# Altium schematic symbol library Discret Components.SchLib: 11 symbols
Pins are listed as number, name and electrical type; pins without a type are passive.

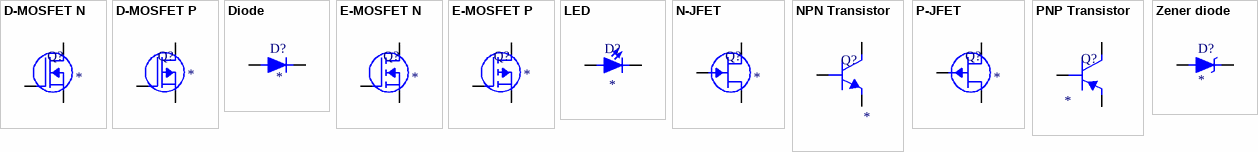
[diagram p0: symbols D-MOSFET N to Zener diode]

## D-MOSFET N
designator Q?
Manufacturer: *; Manufacturer part number: *; Value: *
footprint SOT-23-3 IPC-C
footprint SOT-23-3 IPC-A
footprint SOT-23-3 IPC-B
pins: 1 G, 2 S, 3 D

## D-MOSFET P
designator Q?
Manufacturer: *; Manufacturer part number: *; Value: *
footprint SOT-23-3 IPC-B
footprint SOT-23-3 IPC-C
footprint SOT-23-3 IPC-A
pins: 1 G, 2 S, 3 D

## Diode
designator D?
Manufacturer: *; Manufacturer Part Number: *; Value: *
footprint SOD-323 IPC-B
footprint SOD-323 IPC-C
footprint SOT-23-3 IPC-C
footprint SOT-23-3 IPC-B
footprint SOD-323 IPC-A
footprint SOT-23-3 IPC-A
pins: 1 A, 2 K

## E-MOSFET N
designator Q?
Manufacturer: *; Manufacturer part number: *; Value: *
footprint SOT-23-3 IPC-B
footprint SOT-23-3 IPC-A
footprint SOT-23-3 IPC-C
pins: 1 G, 2 S, 3 D

## E-MOSFET P
designator Q?
Manufacturer: *; Manufacturer part number: *; Value: *
footprint SOT-23-3 IPC-B
footprint SOT-23-3 IPC-A
footprint SOT-23-3 IPC-C
pins: 1 G, 2 S, 3 D

## LED
designator D?
Manufacturer: *; Manufacturer part number: *; Value: *
footprint 0603 IPC-A
footprint 0603 IPC-B
footprint 0603 IPC-C
footprint 0805 IPC-A
footprint 0805 IPC-B
footprint 0805 IPC-C
pins: 1 A, 2 K

## N-JFET
designator Q?
JFET; Manufacturer: *; Manufacturer part number: *; Value: *
footprint SOT-23-3 IPC-B
footprint SOT-23-3 IPC-C
footprint SOT-23-3 IPC-A
pins: 1 G, 2 S, 3 D

## NPN Transistor
designator Q?
Manufacturer: *; Manufacturer Part Number: *; Value: *
footprint SOT-23-3 IPC-A
footprint SOT-23-3 IPC-C
footprint SOT-23-3 IPC-B
pins: 1 B, 2 E, 3 C

## P-JFET
designator Q?
JFET; Manufacturer: *; Manufacturer part number: *; Value: *
footprint SOT-23-3 IPC-C
footprint SOT-23-3 IPC-A
footprint SOT-23-3 IPC-B
pins: 1 G, 2 S, 3 D

## PNP Transistor
designator Q?
Manufacturer: *; Manufactuer part number: *; Value: *
footprint SOT-23-3 IPC-A
footprint SOT-23-3 IPC-C
footprint SOT-23-3 IPC-B
pins: 1 B, 2 E, 3 C

## Zener diode
designator D?
Manufacturer: *; Manufacturer part number: *; Value: *
footprint SOD-323 IPC-A
footprint SOD-323 IPC-B
footprint SOD-323 IPC-C
footprint SOT-23-3 IPC-A
footprint SOT-23-3 IPC-C
footprint SOT-23-3 IPC-B
footprint SOD-323 IPC-A
pins: 1 A, 2 K